# Altium schematic symbol library conn_fpc.SchLib: 35 symbols
Pins are listed as number, name and electrical type; pins without a type are passive.

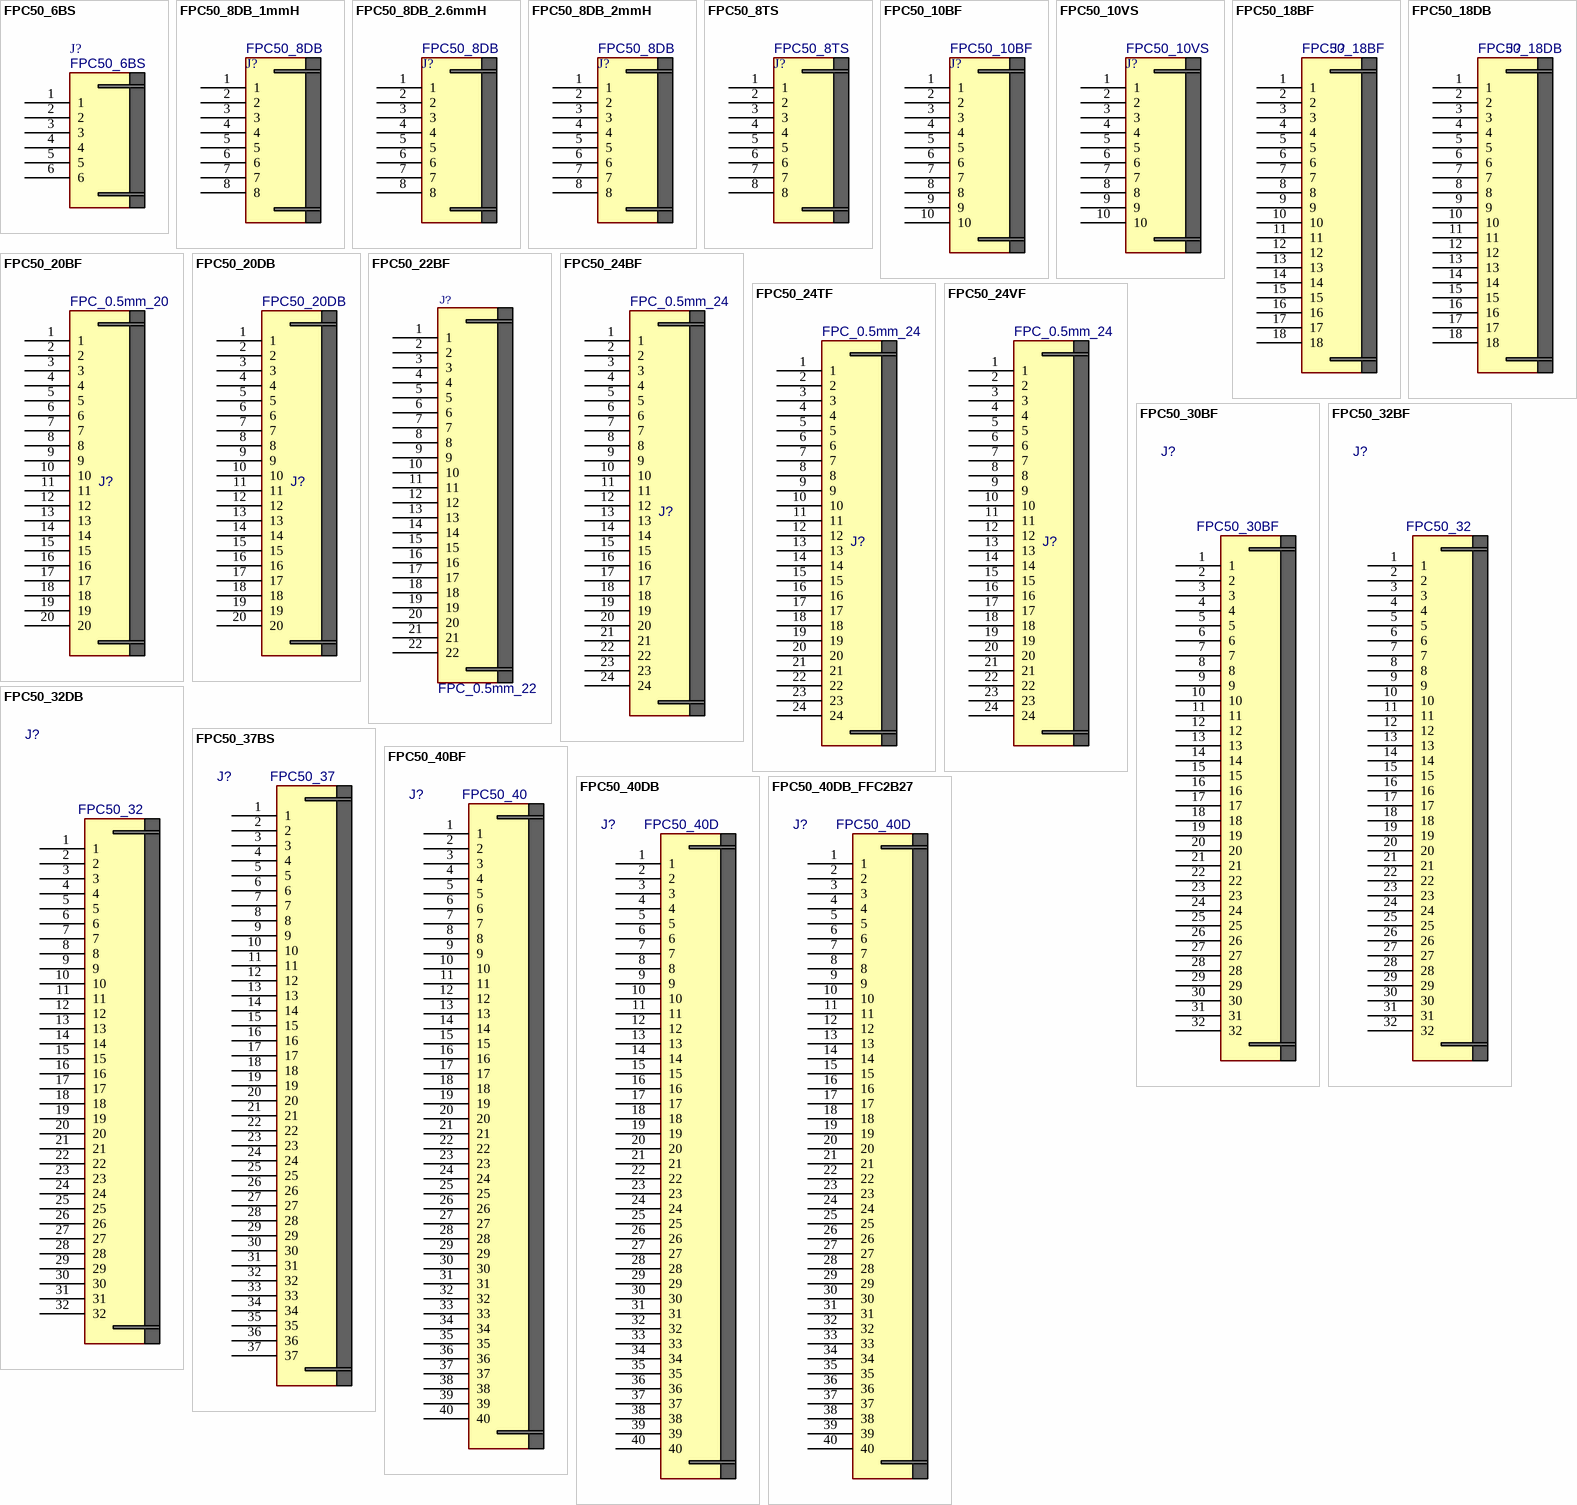
[diagram p0: symbols FPC50_6BS to FPC50_40DB_FFC2B27]

## FPC50_6BS
designator J?
CONN, FPC, 0.50mm pitch, RightAngle, Bot. Contact, Slide lock; MANF: FCI; MANF_P#: SFV6R1STBE1HLF; VALUE: FPC50_6BS
footprint FPC50_6BS (FFC-FPC 6pin pitch: 0.5mm, Bot. Slide lock, Contact, FCI SFV6R1STBE1HLF,)
pins: 1, 2, 3, 4, 5, 6

## FPC50_8DB_1mmH
designator J?, comment FPC50_8DB
CONN, FPC, 0.50mm pitch, RightAngle, Dual Contact, back flip lock; MANF: GCT; MANF_P#: FFC2B28-08-G; PARAM: 1mm height, -25~85°C; VALUE: FPC50_8DB
footprint FPC50_8DB1H (FPC 8pin pitch: 0.5mm Dual Contact, Back flip lock, FFC2B27, 1mm Height)
pins: 1, 2, 3, 4, 5, 6, 7, 8

## FPC50_8DB_2.6mmH
designator J?, comment FPC50_8DB
CONN, FPC, 0.50mm pitch, RightAngle, Dual Contact, back flip lock; MANF: GCT; MANF_P#: FFC2B29-08-G; PARAM: 2.6mm height, -25~85°C; VALUE: FPC50_8DB
footprint FPC50_8DB2H6 (FPC 8pin pitch: 0.5mm Dual Contact, Back flip lock, FFC2B27, 2.6mm Height)
pins: 1, 2, 3, 4, 5, 6, 7, 8

## FPC50_8DB_2mmH
designator J?, comment FPC50_8DB
CONN, FPC, 0.50mm pitch, RightAngle, Dual Contact, back flip lock; MANF: GCT; MANF_P#: FFC2B27-08-G; PARAM: 2mm height, -25~85°C; VALUE: FPC50_8DB
footprint FPC50_8DB2H (FPC 8pin pitch: 0.5mm Dual Contact, Back flip lock, FFC2B27, 2mm Height)
pins: 1, 2, 3, 4, 5, 6, 7, 8

## FPC50_8TS
designator J?
CONN, FPC, 0.50mm pitch, RightAngle, Top. Contact, Slide lock; DESC: LCD Touch; MANF: Amphenol/FCI; MANF_P#: SFV8R-2STE1HLF; PARAM: -55~105oC; PRICE: 0.3$; VALUE: FPC50_8TS
footprint FPC50_8TS (FPC 8pin pitch: 0.5mm Top Contact, Slide lock, FCI SFV8R-2STE1HLF,)
pins: 1, 2, 3, 4, 5, 6, 7, 8

## FPC50_10BF
designator J?
CONN, FPC, 0.50mm pitch, RightAngle, Bot. Contact, front flip lock; DESC: LCD Touch; MANF: Wurth Elektronik; MANF_P#: 687110149022; VALUE: FPC50_10BF
footprint FPC50_10B (FPC, 0.50mm, SMT,RA Bot. Contact, WE 687110149022)
pins: 1, 2, 3, 4, 5, 6, 7, 8, 9, 10

## FPC50_10VS
designator J?
CONN, FPC, 0.50mm pitch, Vertical, slide-lock; DESC: HC-FPC-0.5-10P-LH20, AFC11-S10ICC-00; MANF: GCT; MANF_P#: FFC2A32-10-T; VALUE: FPC50_10VS
footprint FPC50_10VS (FPC, 10 Position; 0.5mm,Vertical, FFC2A32-10-T Slide-lock)
pins: 1, 2, 3, 4, 5, 6, 7, 8, 9, 10

## FPC50_18BF
designator J?
CONN, FPC, 0.50mm pitch, RightAngle, Bot. Contact, front flip lock; MANF_P#: FFC2B35-18-T; PRICE: 2$; VALUE: FPC50_18BF
footprint FPC50_18BF (FPC 0.5mm pitch, Bot. Contact, front flip lock, GCT_FFC2B35-18-T)
pins: 1, 2, 3, 4, 5, 6, 7, 8, 9, 10, 11, 12, 13, 14, 15, 16, 17, 18

## FPC50_18DB
designator J?
CONN, FPC, 0.50mm pitch, RightAngle, Dual Contact, back flip lock; MANF_P#: FFC2B28-18-G; PRICE: 2$; VALUE: FPC50_18DB
footprint FPC50_18DB (FPC 0.5mm pitch, Dual Contact, back flip lock, GCT_FFC2B28-18-G)
pins: 1, 2, 3, 4, 5, 6, 7, 8, 9, 10, 11, 12, 13, 14, 15, 16, 17, 18

## FPC50_20BF
designator J?, comment FPC_0.5mm_20
CONN, FPC, 0.50mm pitch, RightAngle, Bot. Contact, front flip lock; MANF: Hirose; MANF_P#: FH12-20S-0.5SH; PRICE: 2$; VALUE: FPC_0.5mm_20
footprint FPC50_20BF (FH12-20S-0.5SH FFC-FPC pitch: 0.5mm, Bottom Contact, front flip lock)
pins: 1, 2, 3, 4, 5, 6, 7, 8, 9, 10, 11, 12, 13, 14, 15, 16, 17, 18, 19, 20

## FPC50_20DB
designator J?
CONN, FPC, 0.50mm pitch, RightAngle, Dual Contact, back flip lock; MANF_P#: FFC2B28-20-G; PRICE: 2$; VALUE: FPC50_20DB
footprint FPC50_20DB (FPC 0.5mm pitch, Dual Contact, back flip lock, GCT_FFC2B28-20-G)
pins: 1, 2, 3, 4, 5, 6, 7, 8, 9, 10, 11, 12, 13, 14, 15, 16, 17, 18, 19, 20

## FPC50_22BF
designator J?, comment FPC_0.5mm_22
CONN, FPC, 0.50mm pitch, Horizontal, Bottom Contact, front flip lock; MANF: Hirose; MANF_P#: FH55-22S-0.5SH; PARAM2: 5.0 Gbps; PARAM: -55~85oC; VALUE: FPC_0.5mm_22
footprint FPC50_22BF (Connector; 0.5mm, Bottom Contact, front flip lock)
pins: 1, 2, 3, 4, 5, 6, 7, 8, 9, 10, 11, 12, 13, 14, 15, 16, 17, 18, 19, 20, 21, 22

## FPC50_24BF
designator J?, comment FPC_0.5mm_24
CONN, FPC, 0.50mm pitch, RightAngle, Bot. Contact, front flip lock; DESC: FH12F-24S-0.5SH(55); MANF: MOLEX, Hirose, FCI; MANF_P#: 52437-2433, FH12-24S-0.5SH(55), SFV24R-1ST; VALUE: FPC_0.5mm_24
footprint FPC50_24BF (FPC, FH12 Series; 24 Position; 0.5mm, Bottom Contact, front flip lock, FH12F-24S-0.5SH)
pins: 1, 2, 3, 4, 5, 6, 7, 8, 9, 10, 11, 12, 13, 14, 15, 16, 17, 18, 19, 20, 21, 22, 23, 24

## FPC50_24TF
designator J?, comment FPC_0.5mm_24
CONN, FPC, 0.50mm pitch, RightAngle, Top Contact, front flip lock; MANF: Hirose; MANF_P#: FH12A-24S-0.5SH(55); VALUE: FPC_0.5mm_24
footprint FPC50_24TF (FPC 0.5mm, Top Contact, front flip lock, FH12A-24S-0.5SH(55))
pins: 1, 2, 3, 4, 5, 6, 7, 8, 9, 10, 11, 12, 13, 14, 15, 16, 17, 18, 19, 20, 21, 22, 23, 24

## FPC50_24VF
designator J?, comment FPC_0.5mm_24
CONN, FPC, 0.50mm pitch, Vertical, flip lock; MANF: Hirose; MANF_P#: FH12-24S-0.5SV; VALUE: FPC_0.5mm_24
footprint FPC50_24V (Connector; FH12 Series; 24 Position; 0.5mm, Vertical, FH12-24S-0.5SV)
pins: 1, 2, 3, 4, 5, 6, 7, 8, 9, 10, 11, 12, 13, 14, 15, 16, 17, 18, 19, 20, 21, 22, 23, 24

## FPC50_30BF
designator J?
CONN, FPC, 0.50mm pitch, RightAngle, Bot. Contact; MANF_P#: FFC2B35-30-G; VALUE: FPC50_30BF
footprint FPC50_30B (FPC, pitch: 0.5mm, FPC0.5MM4.6H30P-H)
pins: 1, 2, 3, 4, 5, 6, 7, 8, 9, 10, 11, 12, 13, 14, 15, 16, 17, 18, 19, 20, 21, 22, 23, 24, 25, 26, 27, 28, 29, 30, 31, 32

## FPC50_32BF
designator J?, comment FPC50_32
CONN, FPC, 0.50mm pitch, RightAngle, Bot. Contact; MANF_P#: FFC2B35-32, SFV32R, FH12-32S-0.5SH(55); VALUE: FPC50_32
footprint FPC50_32BF (FPC 0.5mm, Bottom Contact, front flip lock)
pins: 1, 2, 3, 4, 5, 6, 7, 8, 9, 10, 11, 12, 13, 14, 15, 16, 17, 18, 19, 20, 21, 22, 23, 24, 25, 26, 27, 28, 29, 30, 31, 32

## FPC50_32DB
designator J?, comment FPC50_32
CONN, FPC, 0.50mm pitch, RightAngle, Bot. Contact, back flip lock; MANF: OMRON; MANF_P#: XF2M-3215-1A; VALUE: FPC50_32
footprint FPC50_32DB (FPC, 32 Position; 0.5mm, Dual Side Contact, back flip lock)
pins: 1, 2, 3, 4, 5, 6, 7, 8, 9, 10, 11, 12, 13, 14, 15, 16, 17, 18, 19, 20, 21, 22, 23, 24, 25, 26, 27, 28, 29, 30, 31, 32

## FPC50_37BS
designator J?, comment FPC50_37
CONN, FPC, 0.50mm pitch, RightAngle, Bot. Contact, Slide lock; MANF: TE; MANF_P#: 3-1734592-7; VALUE: FPC50_37
footprint FPC50_37BS (FPC, pitch: 0.5mm, Slide lock, TE 3-1734592-7)
pins: 1, 2, 3, 4, 5, 6, 7, 8, 9, 10, 11, 12, 13, 14, 15, 16, 17, 18, 19, 20, 21, 22, 23, 24, 25, 26, 27, 28, 29, 30, 31, 32, 33, 34, 35, 36, 37

## FPC50_40BF
designator J?, comment FPC50_40
CONN, FPC, 0.50mm pitch, RightAngle, Bot. Contact, front flip lock; DESC: FH12F-40S-0.5SH, FH12S-40S-0.5SH; MANF: MOLEX, Hirose; MANF_P#: 54132‐4062, FH12-40S-0.5SH; VALUE: FPC50_40
footprint FPC50_40B (FPC, pitch: 0.5mm, FH12-40S-0.5SH, molex 54132-4062)
pins: 1, 2, 3, 4, 5, 6, 7, 8, 9, 10, 11, 12, 13, 14, 15, 16, 17, 18, 19, 20, 21, 22, 23, 24, 25, 26, 27, 28, 29, 30, 31, 32, 33, 34, 35, 36, 37, 38, 39, 40

## FPC50_40DB
designator J?, comment FPC50_40D
CONN, FPC, 0.50mm pitch, RightAngle, Dual side Contact, back flip lock; MANF: Hirose; MANF_P#: FH34SRJ-40S-0.5SH; VALUE: FPC50_40D
footprint FPC50_40DB (FPC, 40 Position; 0.5mm, Top&Bottom Contact, back flip lock, FH34SRJ-40S-0.5SH)
pins: 1, 2, 3, 4, 5, 6, 7, 8, 9, 10, 11, 12, 13, 14, 15, 16, 17, 18, 19, 20, 21, 22, 23, 24, 25, 26, 27, 28, 29, 30, 31, 32, 33, 34, 35, 36, 37, 38, 39, 40

## FPC50_40DB_FFC2B27
designator J?, comment FPC50_40D
CONN, FPC, 0.50mm pitch, RightAngle, Dual side Contact, back flip lock; MANF: GCT; MANF_P#: FFC2B27-40-G; VALUE: FPC50_40D
footprint FPC50_40DB (FPC, 40 Position; 0.5mm, Top&Bottom Contact, back flip lock, GCT FFC2B27-40-G)
pins: 1, 2, 3, 4, 5, 6, 7, 8, 9, 10, 11, 12, 13, 14, 15, 16, 17, 18, 19, 20, 21, 22, 23, 24, 25, 26, 27, 28, 29, 30, 31, 32, 33, 34, 35, 36, 37, 38, 39, 40

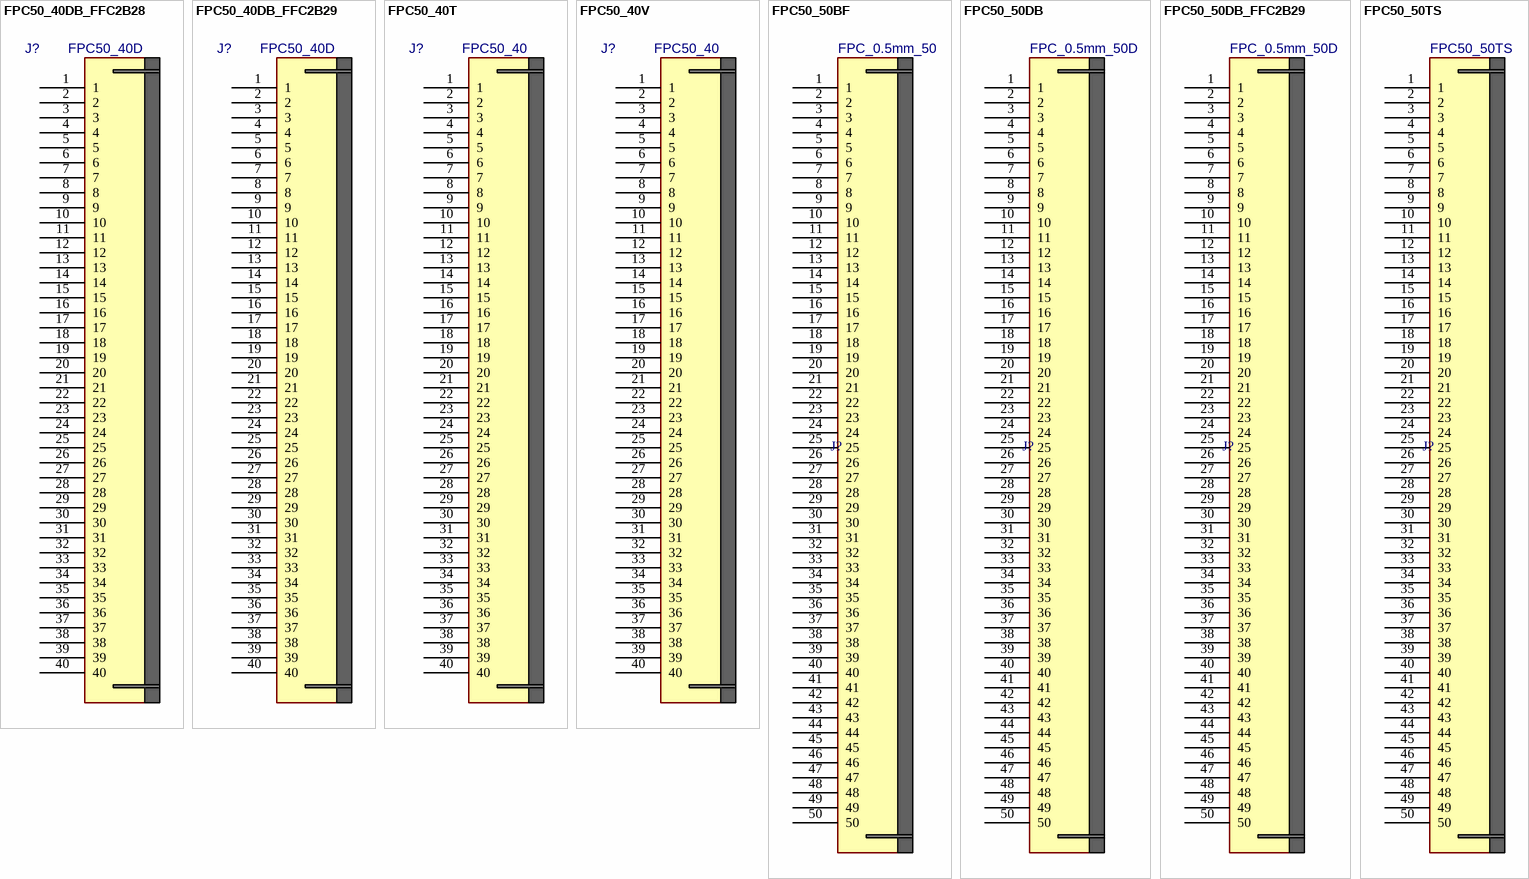
[diagram p1: symbols FPC50_40DB_FFC2B28 to FPC50_50TS]

## FPC50_40DB_FFC2B28
designator J?, comment FPC50_40D
CONN, FPC, 0.50mm pitch, RightAngle, Dual side Contact, back flip lock; MANF: GCT; MANF_P#: FFC2B28-40-G; VALUE: FPC50_40D
footprint FPC50_40DB_FFC2B28 (FPC, 40 Position; 0.5mm, Top&Bottom Contact, back flip lock, GCT FFC2B28-40-G)
pins: 1, 2, 3, 4, 5, 6, 7, 8, 9, 10, 11, 12, 13, 14, 15, 16, 17, 18, 19, 20, 21, 22, 23, 24, 25, 26, 27, 28, 29, 30, 31, 32, 33, 34, 35, 36, 37, 38, 39, 40

## FPC50_40DB_FFC2B29
designator J?, comment FPC50_40D
CONN, FPC, 0.50mm pitch, RightAngle, Dual side Contact, back flip lock; MANF: GCT; MANF_P#: FFC2B29-40-G; VALUE: FPC50_40D
footprint FPC50_40D_FFC2B29 (FPC, 40 Position; 0.5mm, Top&Bottom Contact, GCT FFC2B29-40-G)
pins: 1, 2, 3, 4, 5, 6, 7, 8, 9, 10, 11, 12, 13, 14, 15, 16, 17, 18, 19, 20, 21, 22, 23, 24, 25, 26, 27, 28, 29, 30, 31, 32, 33, 34, 35, 36, 37, 38, 39, 40

## FPC50_40T
designator J?, comment FPC50_40
CONN, FPC, 0.50mm pitch, RightAngle, Top Contact, front flip lock; MANF: Hirose; MANF_P#: FH12A-40S-0.5SH; VALUE: FPC50_40
footprint FPC50_40TF (FPC, 40 Position; 0.5mm, Top Contact, front flip lock)
pins: 1, 2, 3, 4, 5, 6, 7, 8, 9, 10, 11, 12, 13, 14, 15, 16, 17, 18, 19, 20, 21, 22, 23, 24, 25, 26, 27, 28, 29, 30, 31, 32, 33, 34, 35, 36, 37, 38, 39, 40

## FPC50_40V
designator J?, comment FPC50_40
CONN, FPC, 0.50mm pitch, Vertical; MANF: Hirose; MANF_P#: FH12-40S-0.5SVA; VALUE: FPC50_40
footprint FPC50_40V (FPC, FH12 Series; 40 Position; 0.5mm,Vertical, FH12-40S-0.5SVA)
pins: 1, 2, 3, 4, 5, 6, 7, 8, 9, 10, 11, 12, 13, 14, 15, 16, 17, 18, 19, 20, 21, 22, 23, 24, 25, 26, 27, 28, 29, 30, 31, 32, 33, 34, 35, 36, 37, 38, 39, 40

## FPC50_50BF
designator J?, comment FPC_0.5mm_50
CONN, FPC, 0.50mm pitch, RightAngle, Bot. Contact, front flip lock; MANF: Hirose; MANF_P#: FH12-50S-0.5SH; VALUE: FPC_0.5mm_50
footprint FPC50_50B (FPC, pitch: 0.5mm, FH12-50S-0.5SH)
pins: 1, 2, 3, 4, 5, 6, 7, 8, 9, 10, 11, 12, 13, 14, 15, 16, 17, 18, 19, 20, 21, 22, 23, 24, 25, 26, 27, 28, 29, 30, 31, 32, 33, 34, 35, 36, 37, 38, 39, 40, 41, 42, 43, 44, 45, 46, 47, 48, 49, 50

## FPC50_50DB
designator J?, comment FPC_0.5mm_50D
CONN, FPC, 0.50mm pitch, RightAngle, Dual side Contact, back flip lock; MANF: Hirose; MANF_P#: FH34SRJ-50S-0.5SH; VALUE: FPC_0.5mm_50D
footprint FPC50_50D (Footprint not found)
pins: 1, 2, 3, 4, 5, 6, 7, 8, 9, 10, 11, 12, 13, 14, 15, 16, 17, 18, 19, 20, 21, 22, 23, 24, 25, 26, 27, 28, 29, 30, 31, 32, 33, 34, 35, 36, 37, 38, 39, 40, 41, 42, 43, 44, 45, 46, 47, 48, 49, 50

## FPC50_50DB_FFC2B29
designator J?, comment FPC_0.5mm_50D
CONN, FPC, 0.50mm pitch, RightAngle, Dual side Contact, back flip lock; MANF: GCT; MANF_P#: FFC2B29-50-G; VALUE: FPC_0.5mm_50D
footprint FPC50_50D_FFC2B29 (FPC, 40 Position; 0.5mm, Top&Bottom Contact, GCT FFC2B29-50-G)
pins: 1, 2, 3, 4, 5, 6, 7, 8, 9, 10, 11, 12, 13, 14, 15, 16, 17, 18, 19, 20, 21, 22, 23, 24, 25, 26, 27, 28, 29, 30, 31, 32, 33, 34, 35, 36, 37, 38, 39, 40, 41, 42, 43, 44, 45, 46, 47, 48, 49, 50

## FPC50_50TS
designator J?
CONN, FPC, 0.50mm pitch, RightAngle, Top Contact, Slide lock; MANF: Hirose; MANF_P#: FFC2B17-50-T; VALUE: FPC50_50TS
footprint FPC50_50TS (FPC, pitch: 0.5mm, Top Contact, Slide lock, FFC2B17-50-T)
pins: 1, 2, 3, 4, 5, 6, 7, 8, 9, 10, 11, 12, 13, 14, 15, 16, 17, 18, 19, 20, 21, 22, 23, 24, 25, 26, 27, 28, 29, 30, 31, 32, 33, 34, 35, 36, 37, 38, 39, 40, 41, 42, 43, 44, 45, 46, 47, 48, 49, 50

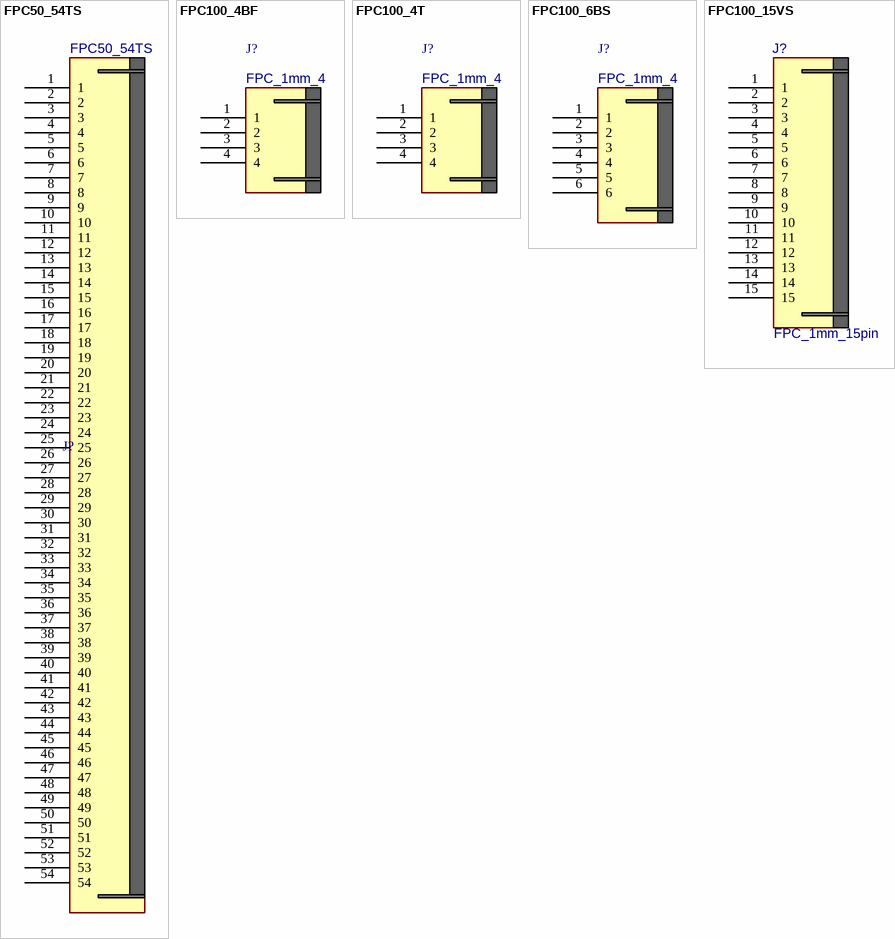
[diagram p2: symbols FPC50_54TS to FPC100_15VS]

## FPC50_54TS
designator J?
CONN, FPC, 0.50mm pitch, RightAngle, Top Contact, Slide lock; MANF: Hirose; MANF_P#: FFC2B17-54-T; VALUE: FPC50_54TS
footprint FPC50_54TS (FPC, pitch: 0.5mm, Top Contact, Slide lock, FFC2B17-54-T)
pins: 1, 2, 3, 4, 5, 6, 7, 8, 9, 10, 11, 12, 13, 14, 15, 16, 17, 18, 19, 20, 21, 22, 23, 24, 25, 26, 27, 28, 29, 30, 31, 32, 33, 34, 35, 36, 37, 38, 39, 40, 41, 42, 43, 44, 45, 46, 47, 48, 49, 50, 51, 52, 53, 54

## FPC100_4BF
designator J?, comment FPC_1mm_4
CONN, FPC, 1mm pitch, RightAngle, Bot. Contact, front flip lock; MANF: Molex; MANF_P#: 200529-0040; VALUE: FPC_1mm_4
footprint FPC100_4BF (FPC, 1mm, Horizental, Bot. Contact, front flip lock, Molex 200529-0040)
pins: 1, 2, 3, 4

## FPC100_4T
designator J?, comment FPC_1mm_4
CONN, FPC, 1mm pitch, RightAngle, Top Contact, Slide Lock; MANF: TE; MANF_P#: 84953-4; VALUE: FPC_1mm_4
footprint FPC100_4TS (FPC, 1mm pitch, Top Contact, Slide Lock, TE Connectivity 4-pin ZIF connector TE84953-4)
pins: 1, 2, 3, 4

## FPC100_6BS
designator J?, comment FPC_1mm_4
CONN, FPC, 1mm pitch, RightAngle, Bot. Contact, Slide lock; MANF: Wurth Electronics, Molex; MANF_P#: 68610614422, 52271-0679; VALUE: FPC_1mm_4
footprint FPC100_6B (FPC 6pin pitch: 1.0mm, Molex 52271-0679)
pins: 1, 2, 3, 4, 5, 6

## FPC100_15VS
designator J?, comment FPC_1mm_15pin
CONN, FPC, 1.0mm pitch, Vertical 1 Sided, Slide lock; MANF: TE; MANF_P#: 1-1734248-5; PARAM: -20~85°C; PRICE: 1$; VALUE: FPC_1mm_15pin
footprint FPC100_15VS (TE 1-1734248-5, Vertical 1Sided, Slide lock)
pins: 1, 2, 3, 4, 5, 6, 7, 8, 9, 10, 11, 12, 13, 14, 15